# EAGLE library part 74X165-SHIFT-REGISTER (library FlashPCB_ICs)
SHIFT-REG-8-BIT - GENERIC 8-BIT SHIFT REGISTER WITH PARALLEL AND SERIAL LOAD, AND CLOCK INHIBIT Technical Specifications: Shift Register 8-bit Complementary Output Data Input: 8-bit Serial/Parallel Data Output: Serial Component Search: MC74HC165ADTR2G <https://www.flashpcb.com/components> Datasheet: MC74HC165ADTR2G <https://www.onsemi.com/pdf/datasheet/mc74hc165a-d.pdf>
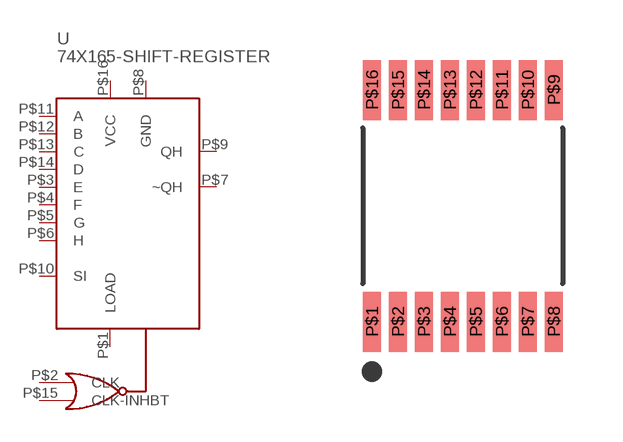
[diagram p1: symbol with the pads of 16-TSSOP; footprint 16-TSSOP]

Designator prefix U

## 74X165-SHIFT-REGISTER16-TSSOP  [16-TSSOP]
P$1  LOAD
P$2  CLK
P$3  E
P$4  F
P$5  G
P$6  H
P$7  ~QH
P$8  GND
P$9  QH
P$10  SI
P$11  A
P$12  B
P$13  C
P$14  D
P$15  CLK-INHBT
P$16  VCC

## Footprint 16-TSSOP (pad centres in mm)
smd 0.45 x 1.5: P$1 -2.275,-2.9; P$2 -1.625,-2.9; P$3 -0.975,-2.9; P$4 -0.325,-2.9; P$5 0.325,-2.9; P$6 0.975,-2.9; P$7 1.625,-2.9; P$8 2.275,-2.9; P$9 2.275,2.9; P$10 1.625,2.9; P$11 0.975,2.9; P$12 0.325,2.9; P$13 -0.325,2.9; P$14 -0.975,2.9; P$15 -1.625,2.9; P$16 -2.275,2.9